# Altium footprint library PCB - POWER - REC30K.PCBLIB: 1 footprints
Each footprint in its own frame and in the unit in brackets; x right, y up, seen from the top. Pads: shape width x height; smd on the part's side, far side on the other; paste and mask are expansions set on the pad; w line width, h text height; cw(c..) or ccw(c..) is an arc to the next point about the centre after c.
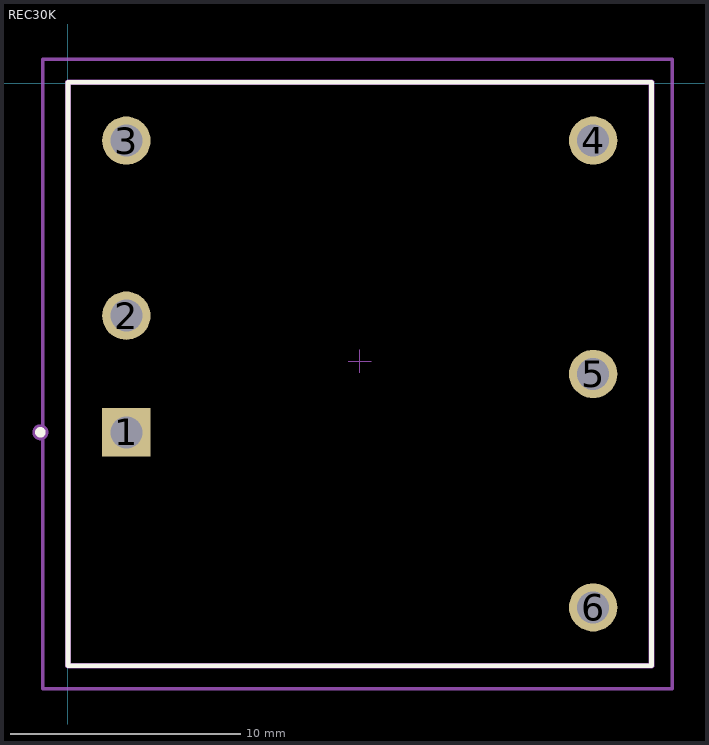
[diagram p0: the footprint, top view; thin cyan lines are the x and y axes]

## REC30K [mm]
pads (6):
  rect 2.1x2.1 hole 1.4: 1(2.54,-15.191)
  round 2.1 hole 1.4: 2(2.54,-10.111) 3(2.54,-2.491) 4(22.86,-2.491) 5(22.86,-12.651) 6(22.86,-22.811)
Top Overlay:
  circle w0.28: c-1.2,-15.191 r0.088
  lines w0.2: 0,-25.351 0,0.049 25.4,0.049 25.4,-25.351 0,-25.351
Top Assembly:
  circle w0.3: c-1.2,-15.191 r0.2
  lines w0.254: 0,-25.351 0,0.049 25.4,0.049 25.4,-25.351 0,-25.351
Top Courtyard:
  lines w0.15: -1.1,-26.351 -1.1,1.049 26.3,1.049 26.3,-26.351 -1.1,-26.351
Top Designator:
  text ".Designator" at 4.802,2 h1.5
Top Component Center:
  lines w0.05: 12.2,-12.1 13.2,-12.1 ; 12.7,-12.6 12.7,-11.6
3D body "REC30K-2415DZ.stp": height 10.66, standoff -5.14, extent -0.1,-25.351 25.3,0.049